# Altium schematic symbol library vestibular_vampire.SchLib: 129 symbols (part 2 of 5)
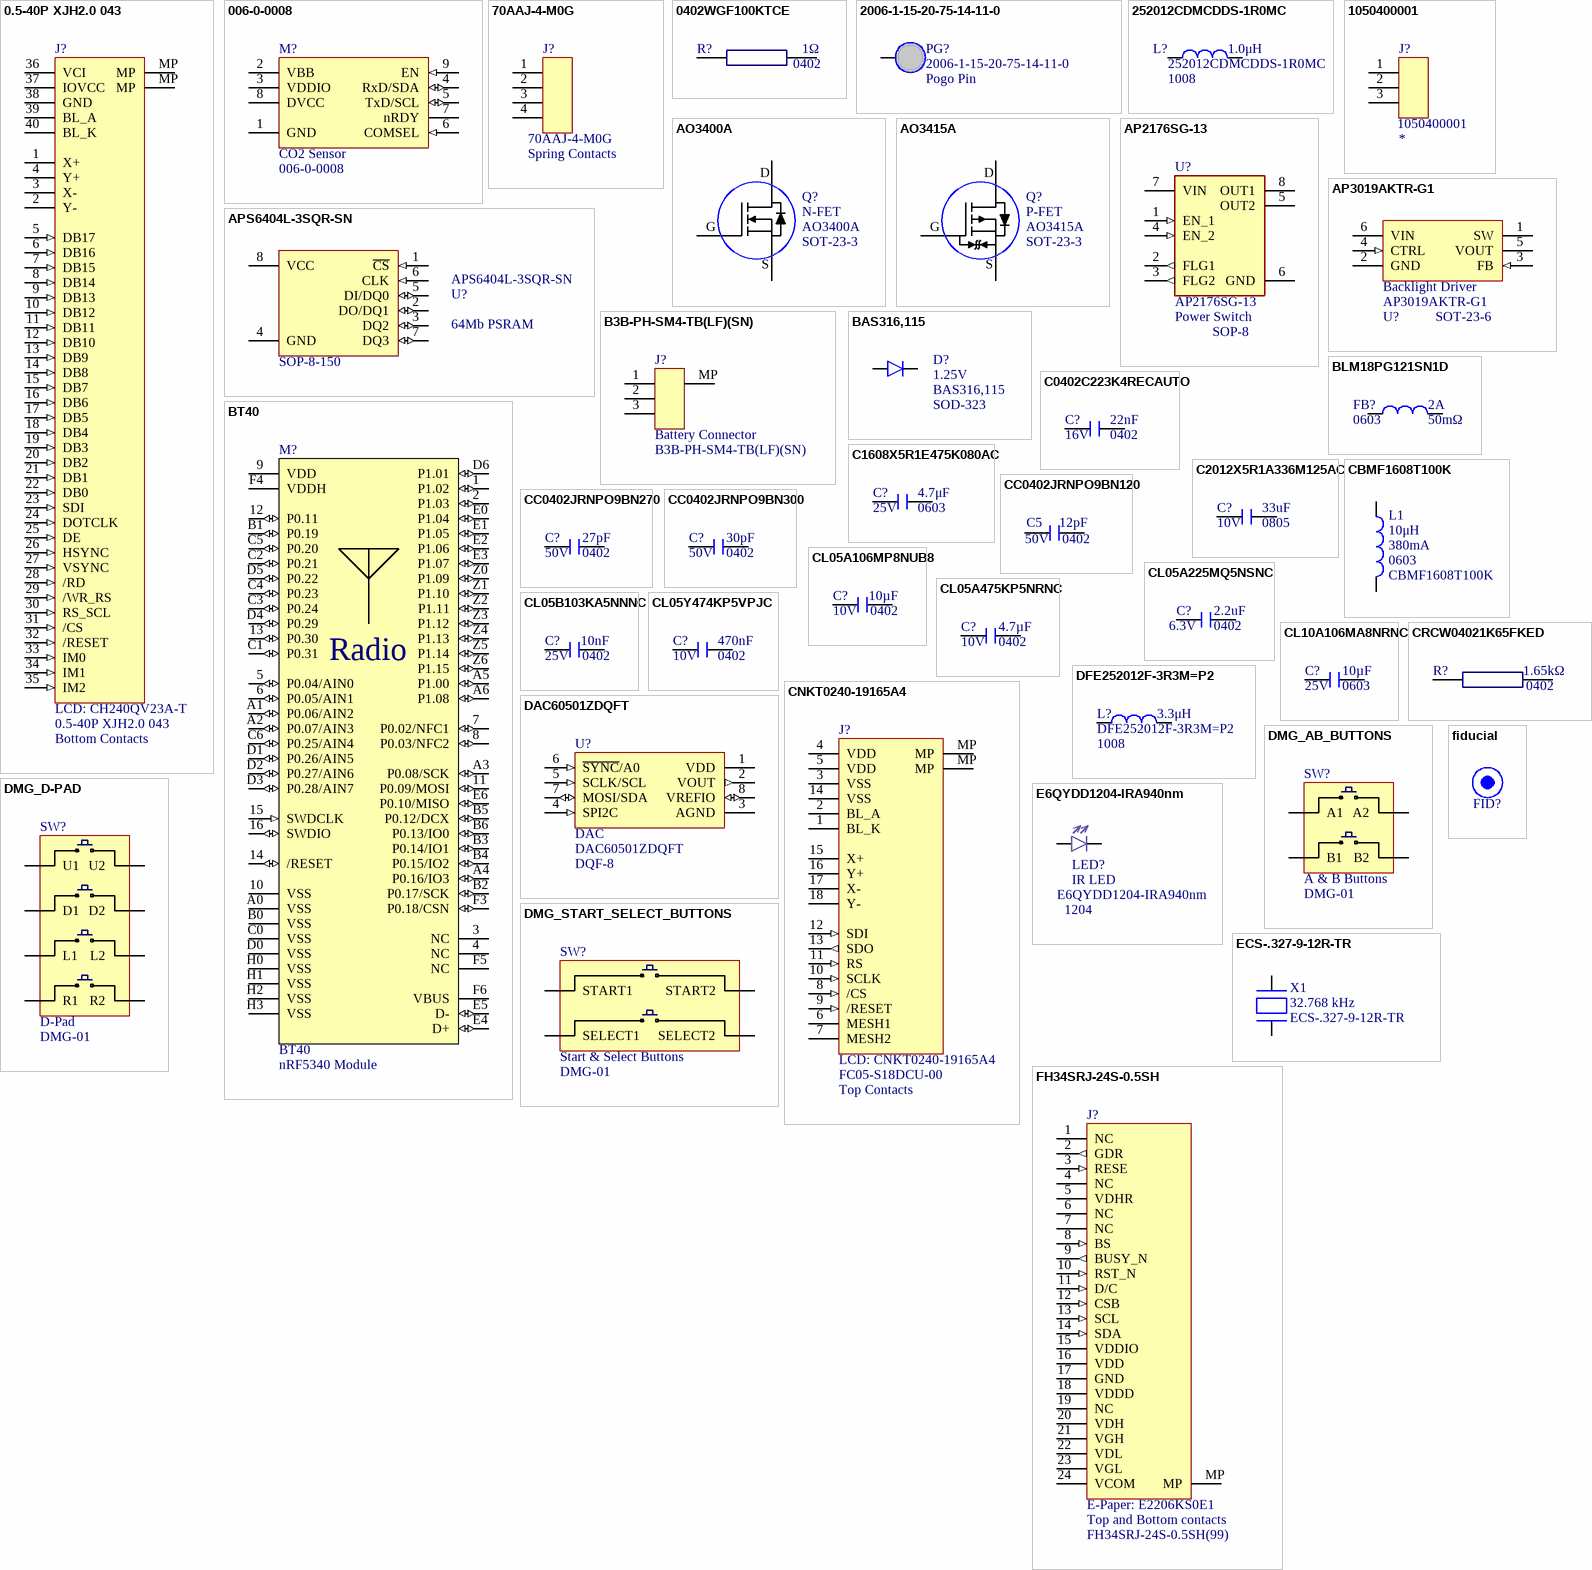
[diagram p4: symbols 0.5-40P XJH2.0 043 to fiducial]

## CRCW04021K65FKED
designator R?  value 1.65kΩ  Case/Package: 0402  (hidden comment: CRCW04021K65FKED)
1.65kΩ, 0402 Chip resistor; Manufacturer: Vishay; house_part_number: R-1.65k-0402-1%-001; Tolerance: 1%; Temperature Coefficient: 100ppm/°C; Max Power Dissipation: 63mW; Voltage Rating: 50V; Supplier 1: Mouser; Supplier Part Number 1: 71-CRCW0402-1.65K-E3; Manufacturer Part Number: CRCW04021K65FKED; RoHS: Yes; Category: Chip SMD Resistors; Stock: 17546; Pricing: 1=0.1, 10=0.019, 50=0.019, 100=0.009, 1000=0.006, 10000=0.004 (USD); Weight: 2.3E-05oz; Case Code (Metric): 1005; Case Code (Imperial): 0402; Contact Plating: Tin; Min Operating Temperature: -55°C; Max Operating Temperature: 155°C; Package Quantity: 10; Packaging: Tape and Reel; Number of Terminations: 2; Features: Automotive AEC-Q200; Series: CRCW; Power Rating: 63mW; Resistor Type: Thick Film; Termination: SMD/SMT; Voltage Rating (DC): 50V; Resistance Tolerance: 1%; Length: 0.039inch; Width: 0.02inch; Height: 0.016inch; Radiation Hardening: No; RoHS Compliant: Yes; Lead Free: Lead Free; Reach SVHC Compliant: Unknown; ComponentLink1URL: https://datasheet.ciiva.com/22871/70201119-22871702.pdf?src-supplier=Allied+Electronics; ComponentLink1Description: https://datasheet.ciiva.com/22871/70201119-22871702.pdf?src-supplier=Allied+Electronics; ComponentLink2URL: https://datasheet.ciiva.com/22700/1697337-22700683.pdf?src-supplier=Element14; ComponentLink2Description: https://datasheet.ciiva.com/22700/1697337-22700683.pdf?src-supplier=Element14; ComponentLink3URL: https://datasheet.ciiva.com/7670/1697337-7670157.pdf?src-supplier=Element14; ComponentLink3Description: https://datasheet.ciiva.com/7670/1697337-7670157.pdf?src-supplier=Element14; ComponentLink4URL: https://datasheet.ciiva.com/7670/1697337-7670158.pdf?src-supplier=Element14; ComponentLink4Description: https://datasheet.ciiva.com/7670/1697337-7670158.pdf?src-supplier=Element14; ComponentLink5URL: https://datasheet.ciiva.com/2464/dcrcwe3-2464480.pdf?src-supplier=Digikey; ComponentLink5Description: https://datasheet.ciiva.com/2464/dcrcwe3-2464480.pdf?src-supplier=Digikey; ComponentLink6URL: https://datasheet.ciiva.com/2464/dcrcwe3-2464481.pdf?src-supplier=Digikey; ComponentLink6Description: https://datasheet.ciiva.com/2464/dcrcwe3-2464481.pdf?src-supplier=Digikey; ComponentLink7URL: https://datasheet.ciiva.com/2464/dcrcwe3-2464482.pdf?src-supplier=Digikey; ComponentLink7Description: https://datasheet.ciiva.com/2464/dcrcwe3-2464482.pdf?src-supplier=Digikey; ComponentLink8URL: https://datasheet.ciiva.com/7743/125364-7743496.pdf?src-supplier=Element14; ComponentLink8Description: https://datasheet.ciiva.com/7743/125364-7743496.pdf?src-supplier=Element14
footprint 0402_resistor (Chip Resistor, 2-Leads, Body 1.00x0.50mm, IPC Medium Density)
pins: 1, 2

## DAC60501ZDQFT
designator U?, comment DAC  Package: DQF-8  Manufacturer Part Number: DAC60501ZDQFT
12-bit DAC; Manufacturer: Texas Instruments; RoHS: No; Category: Digital to Analog Converters (DACs); Stock 1: 338; Pricing 1: 1=2.66000, 10=2.38500, 25=2.25440, 100=1.85370 (USD); Supplier 1: Digi-Key; Supplier Part Number 1: 296-DAC60501ZDQFTCT-ND
footprint DQF-8 (DQF, 8-Leads, Body 2.00x2.00mm, Pitch 0.50mm, IPC Medium Density)
pins: 1 VDD (power), 2 VOUT (out), 3 AGND (power), 4 SPI2C (in), 5 SCLK/SCL (in), 6 ~{SYNC}/A0 (in), 7 MOSI/SDA (io), 8 VREFIO (io)

## DFE252012F-3R3M=P2
designator L?  value 3.3μH  Case Code (Imperial): 1008  (hidden comment: DFE252012F-3R3M=P2)
3.3 μH, 1.8 A, 1008 Inductor; Manufacturer: Murata; house_part_number: L-3.3uH-1008-002; Core Material: Ferrite; Current Rating: 1.8A; Saturation Current: 2.8A; Shielding: Shielded; DC Resistance (DCR): 135mR; Test Frequency: 1MHz; Tolerance: 20%; Supplier Part Number 1: DFE252012F-3R3M=P2; RoHS: Yes; Category: Fixed Inductors; Stock: 8; Pricing: 1=0.1101 (USD); Mounting Technology: Surface Mount; Case/Package: 1008; Case Code (Metric): 2520; Min Operating Temperature: -40°C; Max Operating Temperature: 125°C; Packaging: Cut Tape; Series: DFE252012F; Length: 0.098inch; Width: 0.079inch; Height - Seated (Max): 0.047inch; RoHS Compliant: Yes; ComponentLink1URL: http://www.murata.com/~/media/webrenewal/products/inductor/chip/tokoproducts/wirewoundmetalalloychiptype/m_dfe252012f.ashx?src-supplier=Digikey; ComponentLink1Description: http://www.murata.com/~/media/webrenewal/products/inductor/chip/tokoproducts/wirewoundmetalalloychiptype/m_dfe252012f.ashx?src-supplier=Digikey; ComponentLink2URL: https://www.murata.com/~/media/webrenewal/products/inductor/chip/tokoproducts/wirewoundmetalalloychiptype/m_dfe252012f.ashx?src-supplier=Digikey; ComponentLink2Description: https://www.murata.com/~/media/webrenewal/products/inductor/chip/tokoproducts/wirewoundmetalalloychiptype/m_dfe252012f.ashx?src-supplier=Digikey; ComponentLink3URL: https://datasheet.octopart.com/DFE252012F-3R3M%3DP2-Murata-datasheet-150009032.pdf?src-supplier=Arrow.cn; ComponentLink3Description: https://datasheet.octopart.com/DFE252012F-3R3M%3DP2-Murata-datasheet-150009032.pdf?src-supplier=Arrow.cn; Supplier 1: Arrow Electronics; Manufacturer Part Number: DFE252012F-3R3M=P2
footprint INDC2520X12N (Chip Inductor, 2-Leads, Body 2.50x2.00mm, IPC Medium Density)
pins: 1, 2

## DMG_AB_BUTTONS
designator SW?, comment A & B Buttons  Console: DMG-01
A & B buttons for gameboy DMG
footprint DMG_AB_BUTTONS (A and B buttons for the gameboy GMG)
pins: A1, A2, B1, B2

## DMG_D-PAD
designator SW?, comment D-Pad  Console: DMG-01
D-Pad for gameboy DMG
footprint DMG_D-pad (D-pad for gameboy DMG buttons)
pins: D1, D2, L1, L2, R1, R2, U1, U2

## DMG_START_SELECT_BUTTONS
designator SW?, comment Start & Select Buttons  Console: DMG-01
Start and Select buttons for gameboy DMG
footprint DMG_START_SELECT_BUTTONS (Start and Select buttons for the gameboy DMG)
pins: SELECT1, SELECT2, START1, START2

## E6QYDD1204-IRA940nm
designator LED?, comment IR LED  Case/Package: 1204  Manufacturer Part Number: E6QYDD1204-IRA940nm
Infrared LED, 940nm, 1204, side view; Manufacturer: EKINGLUX; Supplier 1: LCSC; Supplier Part Number 1: C396649
footprint LED1204_SIDE
pins: A, A, K, K

## ECS-.327-9-12R-TR
designator X1  Frequency: 32.768 kHz  (hidden comment: ECS-.327-9-12R-TR)
32.768 kHz 9 pF crystal; Manufacturer: ECS International; Supplier 1: Digi-Key; RoHS: No; Stock 1: 5487; Pricing 1: 1=0.74000, 10=0.61300, 50=0.55200, 100=0.49060, 500=0.46608, 1000=0.39248 (USD); Supplier Part Number 1: XC2745CT-ND; house_part_number: ECS-.327-9-12R; Manufacturer Part Number: ECS-.327-9-12R-TR
footprint ECX-12R (2.0 × 1.2 × 0.6 mm Crystal)
pins: 1, 2

## FH34SRJ-24S-0.5SH
designator J?, comment E-Paper: E2206KS0E1  contact_side: Top and Bottom contacts  Manufacturer Part Number: FH34SRJ-24S-0.5SH(99)
24-Pin FPC Connector, 0.5mm pitch for E2206KS0E1 E-Paper display; Manufacturer: Hirose; Actuator Material: Nylon,Polyamide; Actuator Color: Black; Number of Positions: 24; Voltage Rating: 50V; Mating Cycles: 20; Supplier: Future Electronics; Supplier Part Number: 2094306; RoHS: Yes; Category: FFC / FPC; Stock: 500; Pricing: 500=1.61, 1000=1.59, 1500=1.56 (USD); Mounting Technology: Surface Mount; Pins: 24; Contact Material: Bronze; Contact Plating: Gold; Housing Material: Polymer; Housing Color: Grey; Min Operating Temperature: -55°C; Max Operating Temperature: 85°C; Packaging: Cut Tape; Termination: Solder; Series: FH34SRJ; Flammability Rating: UL94 V-0; RoHS Compliant: Yes; ComponentLink1URL: https://www.hirose.com/product/en/download_file/key_name/FH34SRJ/category/Catalog/doc_file_id/31646/?file_category_id=4&item_id=27&is_series=1&src-supplier=Digikey; ComponentLink1Description: https://www.hirose.com/product/en/download_file/key_name/FH34SRJ/category/Catalog/doc_file_id/31646/?file_category_id=4&item_id=27&is_series=1&src-supplier=Digikey; Supplier 1: Digikey; Supplier Part Number 1: H124725CT-ND
footprint E2206KS0E1
pins: 1 NC "Not connected", 2 GDR (out) "N-channel MOSFET gate drive", 3 RESE (in) "Current sense input", 4 NC "Not connected", 5 VDHR (power) "Positive source driving voltage. Must be decoupled to GND.", 6 NC "Not connected", 7 NC "Not connected", 8 BS (in) "Interface select. Connect to GND.", 9 BUSY_N (out) "Busy, active low. Module must not be talked to while asserted.", 10 RST_N (in) "Reset, active low", 11 D/C (in) "Data/Command", 12 CSB (in) "SPI nCS", 13 SCL (in) "SPI SCK", 14 SDA (in) "SPI MOSI", 15 VDDIO (power) "Logic supply rail", 16 VDD (power) "Main supply rail", 17 GND (power) "Ground", 18 VDDD (power) "Internal voltage regulator output. Must be decoupled to GND.", 19 NC "Not connected", 20 VDH (power) "Positive source driving voltage. Must be decoupled to GND.", 21 VGH (power) "Positive gate driving voltage. Must be decoupled to GND.", 22 VDL (power) "Negative source driving voltage. Must be decoupled to GND.", 23 VGL (power) "Negative gate driving voltage. Must be decoupled to GND.", 24 VCOM (power) "VCOM driving voltage. Must be decoupled to GND.", MP "Mounting Pad"

## fiducial
designator FID?  (value not drawn)  (no BOM)
0.5mm diameter round fiducial; house_part_number: Disc-0.5
footprint fiducial-0.5

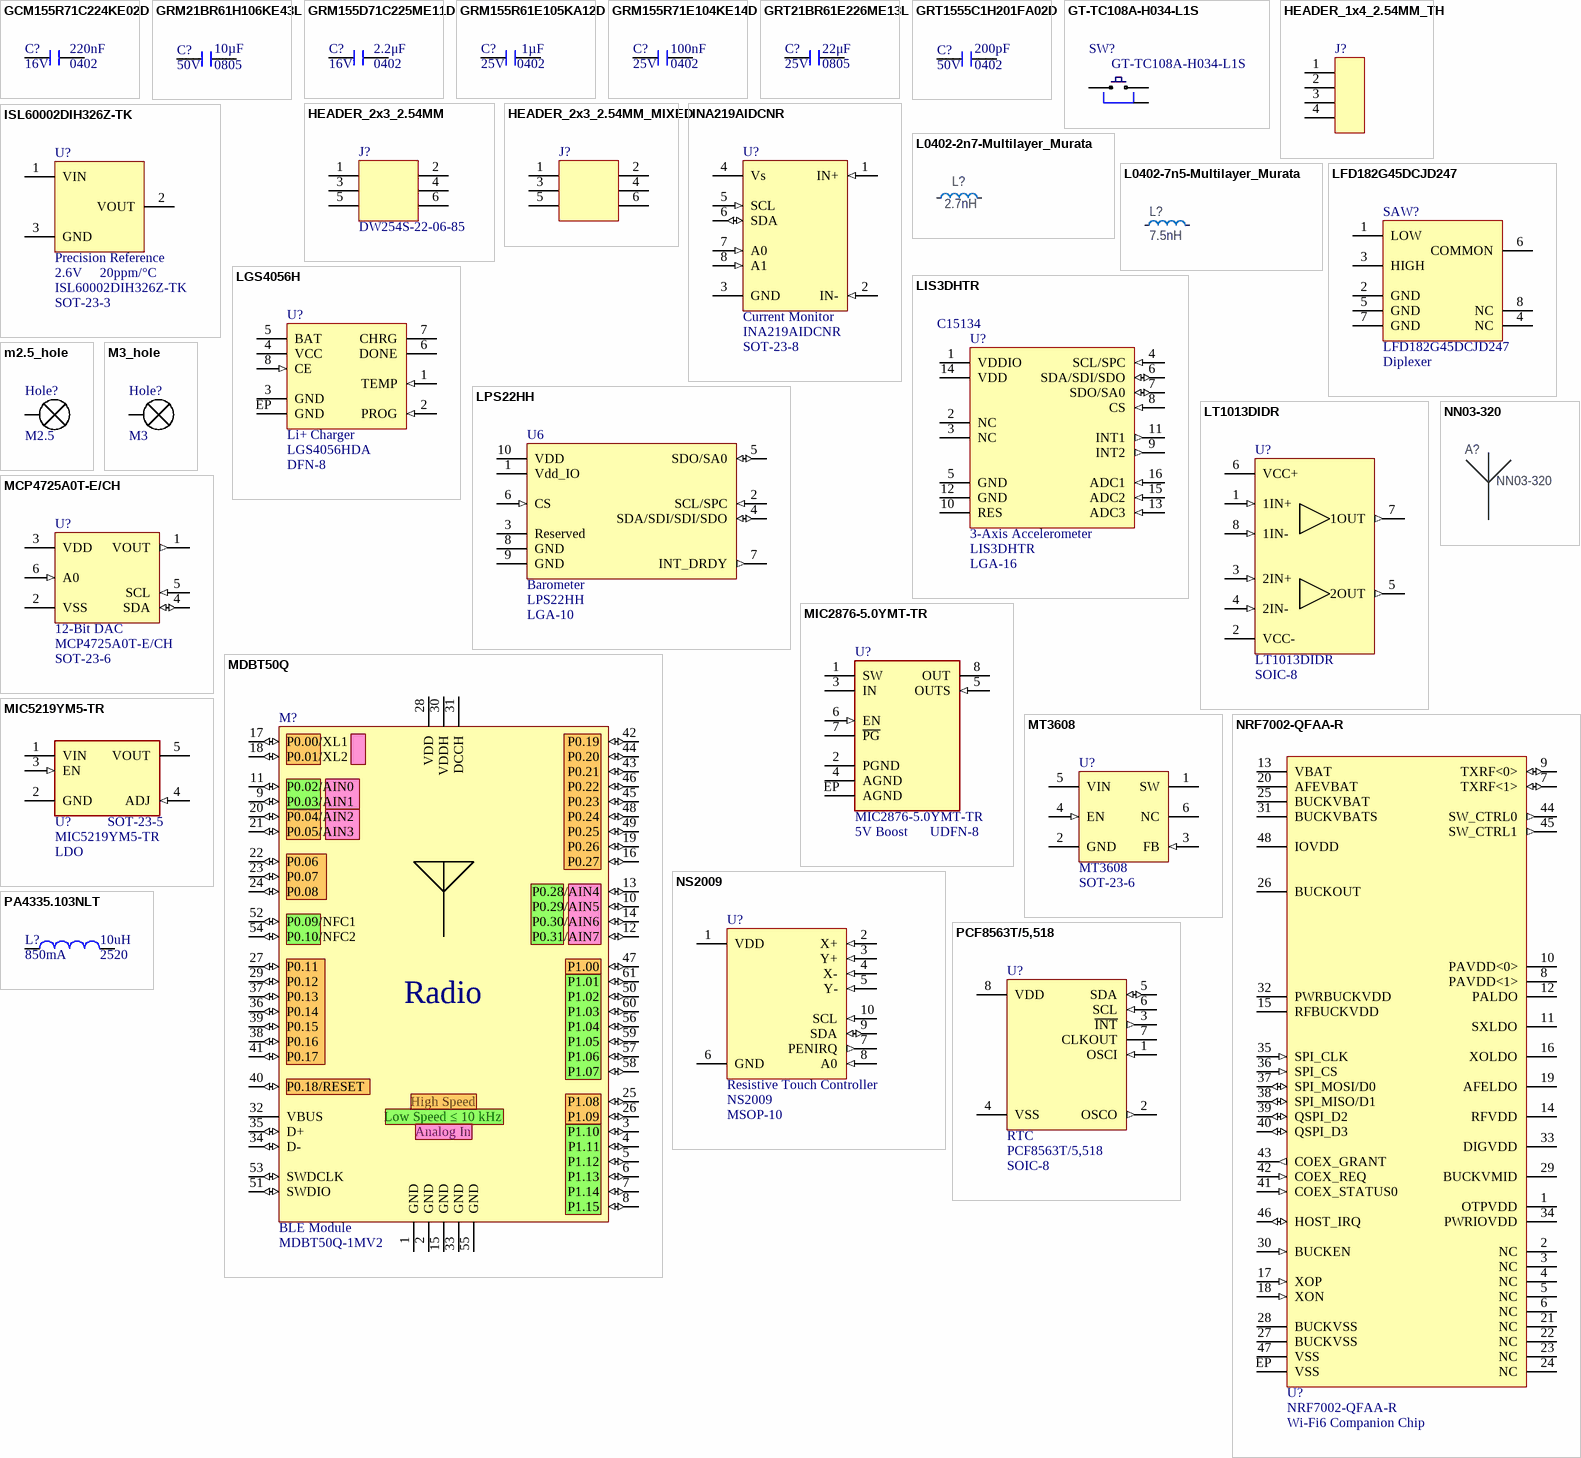
[diagram p1: symbols GCM155R71C224KE02D to PCF8563T/5,518]

## GCM155R71C224KE02D
designator C?  value 220nF  Voltage Rating: 16V  Case/Package: 0402  (hidden comment: GCM155R71C224KE02D)
220 nF, 16 V, X7R, 0402 Chip capacitor; Manufacturer: Murata; Material: Ceramic; Tolerance: 10%; Supplier: Future Electronics; Supplier Part Number: 7050660; Manufacturer Part Number: GCM155R71C224KE02D; RoHS: Yes; Category: Ceramic Capacitors; Stock: 80000; Pricing: 10000=0.0082, 30000=0.0079, 50000=0.0078, 150000=0.0076, 250000=0.0074 (USD); Mounting Technology: Surface Mount; Case Code (Metric): 1005; Case Code (Imperial): 0402; Weight: 0.000212oz; Min Operating Temperature: -55°C; Max Operating Temperature: 125°C; Packaging: Tape and Reel; Dielectric: X7R; Termination: SMD/SMT; Voltage Rating (DC): 16V; Package Quantity: 10000; Series: GCM; Length: 0.039inch; Width: 0.02inch; Height: 0.5mm; Thickness: 0.022inch; Ratings: AEC-Q200; Lead Free: Lead Free; RoHS Compliant: Yes; ComponentLink1URL: http://www.mouser.com/ds/2/281/c03e-806517.pdf?src-supplier=Mouser; ComponentLink1Description: http://www.mouser.com/ds/2/281/c03e-806517.pdf?src-supplier=Mouser; ComponentLink2URL: http://search.murata.co.jp/Ceramy/image/img/A01X/partnumbering_e_02.pdf?src-supplier=Digikey; ComponentLink2Description: http://search.murata.co.jp/Ceramy/image/img/A01X/partnumbering_e_02.pdf?src-supplier=Digikey; ComponentLink3URL: https://datasheet.octopart.com/GCM155R71C224KE02D-Murata-datasheet-32042419.pdf?src-supplier=Future+Electronics; ComponentLink3Description: https://datasheet.octopart.com/GCM155R71C224KE02D-Murata-datasheet-32042419.pdf?src-supplier=Future+Electronics; ComponentLink4URL: https://datasheet.octopart.com/GCM155R71C224KE02D-Murata-datasheet-149522429.pdf?src-supplier=Newark; ComponentLink4Description: https://datasheet.octopart.com/GCM155R71C224KE02D-Murata-datasheet-149522429.pdf?src-supplier=Newark; ComponentLink5URL: https://datasheet.octopart.com/GCM155R71C224KE02D-Murata-datasheet-12511495.pdf?src-supplier=TME; ComponentLink5Description: https://datasheet.octopart.com/GCM155R71C224KE02D-Murata-datasheet-12511495.pdf?src-supplier=TME
footprint 0402_capacitor (0402 chip capacitor)
pins: 1, 2

## GRM21BR61H106KE43L
designator C?  value 10µF  Case/Package: 0805  Voltage Rating: 50V  (hidden comment: *)
10 μF, 50 V, X5R, 0805 Chip capacitor; Manufacturer: Murata; Manufacturer Part Number: GRM21BR61H106KE43L; Manufacturer Lifecycle Status: IN PRODUCTION; Dielectric Material: Ceramic; Tolerance: 10%; Supplier 1: LCSC; RoHS: Compliant; Category: Ceramic Capacitors; Stock 1: 4345800; Pricing 1: 10=0.4708, 10=0.0567, 10=0.514, 10=0.0644, 100=0.3794, 100=0.0457, 100=0.4142, 100=0.0519, 300=0.3327, 300=0.0401, 300=0.3631, 300=0.0455, 3000=0.2815, 3000=0.0339, 3000=0.3073, 3000=0.0385, 6000=0.2676, 6000=0.0323, 6000=0.2921, 6000=0.0366, 9000=0.2588, 9000=0.0312, 9000=0.2825, 9000=0.0354 (CNY); Dielectric: X5R; Height: 1.25mm; Length: 2mm; Lifecycle Status: Production; Material: Ceramic; Max Operating Temperature: 85°C; Min Operating Temperature: -55°C; Mounting Technology: Surface Mount; Number of Terminals: 2; REACH SVHC: Yes; Thickness: 1.25mm; Voltage Rating (DC): 50V; Width: 1.25mm; ComponentLink1URL: https://datasheet.octopart.com:443/GRM21BR61H106KE43L-Murata-datasheet-155345082.pdf?src-supplier=Newark; ComponentLink1Description: https://datasheet.octopart.com:443/GRM21BR61H106KE43L-Murata-datasheet-155345082.pdf?src-supplier=Newark; ComponentLink2URL: https://datasheet.octopart.com:443/GRM21BR61H106KE43L-Murata-datasheet-141278272.pdf?src-supplier=Geoflip; ComponentLink2Description: https://datasheet.octopart.com:443/GRM21BR61H106KE43L-Murata-datasheet-141278272.pdf?src-supplier=Geoflip; ComponentLink3URL: https://datasheet.octopart.com:443/GRM21BR61H106KE43L-Murata-datasheet-165579666.pdf?src-supplier=TME; ComponentLink3Description: https://datasheet.octopart.com:443/GRM21BR61H106KE43L-Murata-datasheet-165579666.pdf?src-supplier=TME; ComponentLink4URL: https://datasheet.octopart.com:443/GRM21BR61H106KE43L-Murata-datasheet-140707579.pdf?src-supplier=Ciiva; ComponentLink4Description: https://datasheet.octopart.com:443/GRM21BR61H106KE43L-Murata-datasheet-140707579.pdf?src-supplier=Ciiva; ComponentLink5URL: https://datasheet.octopart.com:443/GRM21BR61H106KE43L-Murata-datasheet-138744880.pdf?src-supplier=Ciiva; ComponentLink5Description: https://datasheet.octopart.com:443/GRM21BR61H106KE43L-Murata-datasheet-138744880.pdf?src-supplier=Ciiva; ComponentLink6URL: https://datasheet.octopart.com/GRM21BR61H106KE43L-Murata-datasheet-12515295.pdf; ComponentLink6Description: https://datasheet.octopart.com/GRM21BR61H106KE43L-Murata-datasheet-12515295.pdf; ComponentLink7URL: https://datasheet.octopart.com/GRM21BR61H106KE43L-Murata-datasheet-12510076.pdf; ComponentLink7Description: https://datasheet.octopart.com/GRM21BR61H106KE43L-Murata-datasheet-12510076.pdf; ComponentLink8URL: https://datasheet.octopart.com/GRM21BR61H106KE43L-Murata-datasheet-11978611.pdf; ComponentLink8Description: https://datasheet.octopart.com/GRM21BR61H106KE43L-Murata-datasheet-11978611.pdf; ComponentLink9URL: https://datasheet.octopart.com/GRM21BR61H106KE43L-Murata-datasheet-10025737.pdf; ComponentLink9Description: https://datasheet.octopart.com/GRM21BR61H106KE43L-Murata-datasheet-10025737.pdf; ComponentLink10URL: https://datasheet.octopart.com/GRM21BR61H106KE43L-Murata-datasheet-8819587.pdf; ComponentLink10Description: https://datasheet.octopart.com/GRM21BR61H106KE43L-Murata-datasheet-8819587.pdf; ComponentLink11URL: http://sigma.octopart.com:80/reach_statement/Murata-company-16.pdf?src-supplier=Compliance+Statements; ComponentLink11Description: http://sigma.octopart.com:80/reach_statement/Murata-company-16.pdf?src-supplier=Compliance+Statements; Supplier Part Number 1: C440198
footprint 0805_capacitor (Chip Capacitor, 2-Leads, Body 2.00x1.25mm, IPC Medium Density)
pins: 1, 2

## GRM155D71C225ME11D
designator C?  value 2.2μF  Voltage Rating: 16V  Case/Package: 0402  (hidden comment: GRM155D71C225ME11D)
2.2 µF, 16 V, X7T, 0402 Chip capacitor; Manufacturer: Murata; Material: Ceramic; Tolerance: 20%; Supplier: Future Electronics; Supplier Part Number: 9135167; Manufacturer Part Number: GRM155D71C225ME11D; RoHS: Yes; Category: Ceramic Capacitors; Stock: 10000; Pricing: 10000=0.0274, 20000=0.027, 30000=0.0267, 40000=0.0266, 50000=0.026 (USD); Min Operating Temperature: -55°C; Max Operating Temperature: 125°C; Dielectric: X7T; Voltage Rating (DC): 16V; Length: 1mm; Width: 500um; Height: 650um; Thickness: 500um; RoHS Compliant: Yes; ComponentLink1URL: https://datasheet.octopart.com/GRM155D71C225ME11D-Murata-datasheet-165579666.pdf?src-supplier=TME; ComponentLink1Description: https://datasheet.octopart.com/GRM155D71C225ME11D-Murata-datasheet-165579666.pdf?src-supplier=TME
footprint 0402_capacitor (0402 chip capacitor)
pins: 1, 2

## GRM155R61E105KA12D
designator C?  Size Code: 0402  Capacitance: 1µF  Voltage: 25V  (hidden comment: GRM155R61E105KA12D)
1 µF, 25 V, X5R, 0402 Chip capacitor; Manufacturer: Murata; house_part_number: C-1uF-0402-002; Dielectric Material: Ceramic; Multilayer: Yes; Negative Tolerance: 10%; Supplier 1: Digi-Key; Supplier Part Number 1: 490-10017-1-ND; RoHS: Yes; Category: Ceramic Capacitors; Stock 1: 145965; Pricing 1: 1=0.11000, 10=0.08300, 50=0.04560, 100=0.03720, 500=0.02656, 1000=0.02087, 2500=0.01898, 5000=0.01746 (USD); Mount: Surface Mount; Number of Pins: 2; Package Shape: Rectangular; Terminal Finish: Nickel; Min Operating Temperature: -55°C; Max Operating Temperature: 85°C; JESD-609 Code: e3; Capacitor Type: Ceramic; Package Style: SMTMeter; Packaging: Tape and Reel; Positive Tolerance: 10%; Temperature Characteristics Code: X5R; Termination: Wraparound; Length: 1mm; Width: 0.5mm; Height: 0.5mm; REACH SVHC: Yes; RoHS Compliant: Yes; ComponentLink1URL: https://datasheet.ciiva.com:443/pdfs/VipMasterIC/IC/MURE/MURE-S-A0004362469/MURE-S-A0004364524-1.pdf?src-supplier=IHS+Markit; ComponentLink1Description: https://datasheet.ciiva.com:443/pdfs/VipMasterIC/IC/MURE/MURE-S-A0004362469/MURE-S-A0004364524-1.pdf?src-supplier=IHS+Markit; ComponentLink2URL: https://datasheet.ciiva.com/7719/1666664-7719006.pdf?src-supplier=Element14; ComponentLink2Description: https://datasheet.ciiva.com/7719/1666664-7719006.pdf?src-supplier=Element14; ComponentLink3URL: https://datasheet.ciiva.com/22732/1666664-22732122.pdf?src-supplier=Element14; ComponentLink3Description: https://datasheet.ciiva.com/22732/1666664-22732122.pdf?src-supplier=Element14; Manufacturer Part Number: GRM155R61E105KA12D
footprint 0402_capacitor (0402 chip capacitor)
pins: 1, 2

## GRM155R71E104KE14D
designator C?  Case Code (Imperial): 0402  Voltage: 25V  Capacitance: 100nF  (hidden comment: GRM155R71E104KE14D)
100 nF, 25 V, X7R, 0402 Chip capacitor; Manufacturer: Murata; house_part_number: C-100nF-0402-002; Dielectric Material: Ceramic; Tolerance: 10%; Supplier 1: Digi-Key; Supplier Part Number 1: 490-10698-1-ND; RoHS: Yes; Category: Ceramic Capacitors; Pricing 1: 1=0.10000, 10=0.02700, 50=0.01460, 100=0.01190, 500=0.00848, 1000=0.00666, 2500=0.00605, 5000=0.00557 (USD); Mount: Surface Mount; Case/Package: 0402; Case Code (Metric): 1005; Weight: 0.000212oz; Min Operating Temperature: -55°C; Max Operating Temperature: 125°C; Packaging: Tape and Reel; Voltage Rating: 25V; Dielectric: X7R; Termination: SMD/SMT; Resistor Type: Ceramic; Voltage Rating (DC): 25V; Package Quantity: 10000; Length: 1mm; Width: 0.02inch; Height: 0.5mm; Thickness: 0.022inch; Depth: 0.5mm; REACH SVHC: Unknown; Lead Free: Lead Free; RoHS Compliant: Yes; ComponentLink1URL: http://www.farnell.com/datasheets/1872206.pdf?src-supplier=Farnell; ComponentLink1Description: http://www.farnell.com/datasheets/1872206.pdf?src-supplier=Farnell; ComponentLink2URL: http://components.arrow.com/part/dataview/0323_06361249?src-supplier=Arrow+Europe; ComponentLink2Description: http://components.arrow.com/part/dataview/0323_06361249?src-supplier=Arrow+Europe; ComponentLink3URL: http://uk.rs-online.com/webdocs/144c/0900766b8144c113.pdf?src-supplier=RSComponents; ComponentLink3Description: http://uk.rs-online.com/webdocs/144c/0900766b8144c113.pdf?src-supplier=RSComponents; ComponentLink4URL: http://www.farnell.com/datasheets/2048008.pdf?src-supplier=Farnell; ComponentLink4Description: http://www.farnell.com/datasheets/2048008.pdf?src-supplier=Farnell; ComponentLink5URL: http://www.mouser.com/ds/2/281/c02e-2905.pdf?src-supplier=Mouser; ComponentLink5Description: http://www.mouser.com/ds/2/281/c02e-2905.pdf?src-supplier=Mouser; ComponentLink6URL: http://www.farnell.com/datasheets/2048008.pdf?src-supplier=Newark; ComponentLink6Description: http://www.farnell.com/datasheets/2048008.pdf?src-supplier=Newark; ComponentLink7URL: https://search.murata.co.jp/Ceramy/image/img/A01X/G101/ENG/GRM155R71E104KE14-01.pdf?src-supplier=Digi-Key; ComponentLink7Description: https://search.murata.co.jp/Ceramy/image/img/A01X/G101/ENG/GRM155R71E104KE14-01.pdf?src-supplier=Digi-Key; ComponentLink8URL: http://www.farnell.com/datasheets/2048008.pdf?src-supplier=Element14; ComponentLink8Description: http://www.farnell.com/datasheets/2048008.pdf?src-supplier=Element14; ComponentLink9URL: http://psearch.en.murata.com/capacitor/product/GRM155R71E104KE14%23.pdf?src-supplier=Avnet; ComponentLink9Description: http://psearch.en.murata.com/capacitor/product/GRM155R71E104KE14%23.pdf?src-supplier=Avnet; Manufacturer Part Number: GRM155R71E104KE14D
footprint 0402_capacitor (0402 chip capacitor)
pins: 1, 2

## GRT21BR61E226ME13L
designator C?  value 22μF  Rated DC Voltage (URdc): 25V  Case/Package: 0805  (hidden comment: *)
22 μF, 25 V, X5R, 0805 Chip capacitor; Manufacturer: Murata; Manufacturer Part Number: GRT21BR61E226ME13L; Dielectric Material: Ceramic; Multilayer: Yes; Tolerance  (fill in as +-): 20%; Reference Standard: AEC-Q200; Supplier 1: Digi-Key; RoHS: Yes; Category: Ceramic Capacitors; Stock 1: 1983731; Pricing 1: 1=0.48, 10=0.338, 50=0.2558, 100=0.2228, 500=0.16508, 1000=0.14031 (USD); Mounting Technology: Surface Mount; Pins: 2; Package Shape: Rectangular; Terminal Finish: Nickel; Min Operating Temperature: -55°C; Max Operating Temperature: 85°C; JESD-609 Code: e3; Capacitor Type: Ceramic; Packaging: Tape and Reel; Tolerance (fill in as +-): 20%; Temperature Characteristics Code: X5R; Termination: Wraparound; Reach SVHC Compliant: Yes; RoHS Compliant: Yes; ComponentLink1URL: https://datasheet.ciiva.com:443/pdfs/VipMasterIC/IC/MURE/MURE-S-A0004410517/MURE-S-A0004413512-1.pdf?src-supplier=IHS+Markit; ComponentLink1Description: https://datasheet.ciiva.com:443/pdfs/VipMasterIC/IC/MURE/MURE-S-A0004410517/MURE-S-A0004413512-1.pdf?src-supplier=IHS+Markit; ComponentLink2URL: http://search.murata.co.jp/Ceramy/image/img/A01X/G101/ENG/GRT21BR61E226ME13-01.pdf?src-supplier=Digi-Key; ComponentLink2Description: http://search.murata.co.jp/Ceramy/image/img/A01X/G101/ENG/GRT21BR61E226ME13-01.pdf?src-supplier=Digi-Key; Supplier Part Number 1: 490-12389-1-ND
footprint 0805_capacitor (Chip Capacitor, 2-Leads, Body 2.00x1.25mm, IPC Medium Density)
pins: 1, 2

## GRT1555C1H201FA02D
designator C?  value 200pF  Voltage Rating: 50V  Case/Package: 0402  (hidden comment: *)
200 pF, 50V, C0G, 0402 Chip capacitor; Manufacturer: Murata; Manufacturer Part Number: GRT1555C1H201FA02D; Manufacturer Lifecycle Status: IN PRODUCTION; Dielectric Material: Ceramic; Temperature Coefficient: 30ppm/°C; Tolerance: 1%; Supplier 1: LCSC; RoHS: Compliant; Category: Ceramic Capacitors; Stock 1: 4350; Pricing 1: 50=0.0995, 50=0.012, 50=0.1086, 50=0.0136, 500=0.0783, 500=0.0095, 500=0.0854, 500=0.0107, 1500=0.0666, 1500=0.0081, 1500=0.0727, 1500=0.0091, 10000=0.0593, 10000=0.0072, 10000=0.0647, 10000=0.0081, 20000=0.0534, 20000=0.0065, 20000=0.0583, 20000=0.0073, 50000=0.0505, 50000=0.0061, 50000=0.0551, 50000=0.0069 (CNY); Height: 500µm; Length: 1mm; Lifecycle Status: Production; Material: Ceramic; Max Operating Temperature: 125°C; Min Operating Temperature: -55°C; Mounting Technology: Surface Mount; Number of Terminals: 2; REACH SVHC: Yes; Thickness: 500µm; Voltage Rating (DC): 50V; Width: 500µm; ComponentLink1URL: http://sigma.octopart.com:80/reach_statement/Murata-company-16.pdf?src-supplier=Compliance+Statements; ComponentLink1Description: http://sigma.octopart.com:80/reach_statement/Murata-company-16.pdf?src-supplier=Compliance+Statements; Supplier Part Number 1: C3896876
footprint 0402_capacitor (0402 chip capacitor)
pins: 1, 2

## GT-TC108A-H034-L1S
designator SW?
GT-TC108A-H034-L1S; Manufacturer: G-Switch; Supplier: LCSC; Supplier Part Number: C22396279; RoHS: No; Stock: 21128; Pricing: 5=0.1075, 50=0.0865, 150=0.0761, 500=0.0682, 2000=0.0619, 4000=0.0587 (USD); Manufacturer Part Number: GT-TC108A-H034-L1S
footprint SKRTLA
pins: A, B, MP (power)

## HEADER_1x4_2.54MM_TH
designator J?  (value not drawn)
footprint HEADER_1X4P_2.54MM_TH
pins: 1, 2, 3, 4

## HEADER_2x3_2.54MM
designator J?  Manufacturer Part Number: DW254S-22-06-85  (hidden comment: HEADER_2x3_2.54MM)
0.1" socket, 3x2, SMD; house_part_number: DW254S-22-06-85
footprint HEADER_2X3P_2.54MM
pins: 1, 2, 3, 4, 5, 6

## HEADER_2x3_2.54MM_MIXED
designator J?, comment HEADER_2x3_2.54MM  (value not drawn)
0.1" socket, 3x2, SMD; house_part_number: SAO; Manufacturer Part Number: SAO Header
footprint HEADER_2X3P_2.54MM - TH
pins: 1, 2, 3, 4, 5, 6

## INA219AIDCNR
designator U?, comment Current Monitor  Case/Package: SOT-23-8  Manufacturer Part Number: INA219AIDCNR
12-bit, 26 V, Current monitor, SOT-23-8; Manufacturer: Texas Instruments; Manufacturer Lifecycle Status: ACTIVE; Accuracy: 1%; Bandwidth: 3.4MHz; Common Mode Rejection Ratio: 100dB; Input Offset Voltage (Vos): 100µV; Max Supply Voltage: 26V; Max Junction Temperature (Tj): 150°C; Max Supply Current: 5mA; Min Input Voltage: 0V; Min Supply Voltage: 3V; Nominal Supply Current: 700µA; Number of Amplifiers: 1; Operating Supply Current: 1mA; Output Current: 10mA; Output Type: Digital; Supplier 1: LCSC; RoHS: Compliant; Category: Amplifiers - Op Amps, Buffer, Instrumentation; Stock 1: 20380; Pricing 1: 1=4.0454, 1=0.4815, 1=4.4162, 1=0.5534, 10=3.3809, 10=0.4024, 10=3.6908, 10=0.4625, 30=2.9072, 30=0.346, 30=3.1737, 30=0.3977, 100=2.5132, 100=0.2992, 100=2.7436, 100=0.3438, 500=2.389, 500=0.2844, 500=2.6079, 500=0.3268, 1000=2.3217, 1000=0.2764, 1000=2.5345, 1000=0.3176 (CNY); Ambient Temperature Range High: 85°C; Contact Plating: Gold; Features: I²C; Height: 1.45mm; Lead Free: Lead Free; Length: 2.9mm; Lifecycle Status: Production; Max Operating Temperature: 125°C; Min Operating Temperature: -40°C; Number of Outputs: 1; Pins: 8; Output Current per Channel: 10mA; Packaging: Cut Tape; Quiescent Current: 700µA; Radiation Hardening: No; REACH SVHC: No; Schedule B: 8542330000|8542330000|8542330000, 8542330000|8542330000|8542330000|8542330000|8542330000; Thickness: 1.1mm; Weight: 40.001177mg; Width: 1.63mm; ComponentLink1URL: https://octopart.com:443/opatz8j6/c1?t=DVq09uJr_YdfZ3FRpbOBgPun56EVh337pP3YmMsMgBQtNH6hRcAHRUvxGerFQEBV7m1HzARORBc_wP6s1K2TllUe8djZ8D3A50dxM-TXm_1WtZGsSs9rKauk-HQpUDSZf4lUPI62nM8LWJt3msp5UKlwZreW95VyiTJ2Dr4WnsefFfByjfz4Pr-XpEVfgU679EhLe0aST7zwMe-5YuyqqsAtxcCLEgrONwdDej-2clXOK-cBRd3NGZmje8a8QhigDDw02IpOoivKjdM1wlIeKQ4WXXxBl5NHv561hpyEZKyv6NAKwXJkcYig7bt9qUrtqQLjmPafQrnLdjIA2W2dMCJI4l2lGR1WvT7_B070DjUZK-9N8JxxLah7jZa2Tv7ownM&src-supplier=Texas+Instruments; ComponentLink1Description: https://octopart.com:443/opatz8j6/c1?t=DVq09uJr_YdfZ3FRpbOBgPun56EVh337pP3YmMsMgBQtNH6hRcAHRUvxGerFQEBV7m1HzARORBc_wP6s1K2TllUe8djZ8D3A50dxM-TXm_1WtZGsSs9rKauk-HQpUDSZf4lUPI62nM8LWJt3msp5UKlwZreW95VyiTJ2Dr4WnsefFfByjfz4Pr-XpEVfgU679EhLe0aST7zwMe-5YuyqqsAtxcCLEgrONwdDej-2clXOK-cBRd3NGZmje8a8QhigDDw02IpOoivKjdM1wlIeKQ4WXXxBl5NHv561hpyEZKyv6NAKwXJkcYig7bt9qUrtqQLjmPafQrnLdjIA2W2dMCJI4l2lGR1WvT7_B070DjUZK-9N8JxxLah7jZa2Tv7ownM&src-supplier=Texas+Instruments; ComponentLink2URL: https://datasheet.octopart.com:443/INA219AIDCNR-Texas-Instruments-datasheet-10383171.pdf?src-supplier=Texas+Instruments; ComponentLink2Description: https://datasheet.octopart.com:443/INA219AIDCNR-Texas-Instruments-datasheet-10383171.pdf?src-supplier=Texas+Instruments; ComponentLink3URL: https://datasheet.octopart.com:443/INA219AIDCNR-Texas-Instruments-datasheet-10258484.pdf?src-supplier=Texas+Instruments; ComponentLink3Description: https://datasheet.octopart.com:443/INA219AIDCNR-Texas-Instruments-datasheet-10258484.pdf?src-supplier=Texas+Instruments; ComponentLink4URL: https://sigma.octopart.com:443/49252122/technical_drawing/Texas-Instruments-INA219AIDCNR.pdf?src-supplier=Texas+Instruments; ComponentLink4Description: https://sigma.octopart.com:443/49252122/technical_drawing/Texas-Instruments-INA219AIDCNR.pdf?src-supplier=Texas+Instruments; ComponentLink5URL: https://datasheet.octopart.com:443/INA219AIDCNR-Texas-Instruments-datasheet-102489495.pdf?src-supplier=Upverter; ComponentLink5Description: https://datasheet.octopart.com:443/INA219AIDCNR-Texas-Instruments-datasheet-102489495.pdf?src-supplier=Upverter; ComponentLink6URL: https://datasheet.octopart.com:443/INA219AIDCNR-Texas-Instruments-datasheet-11538655.pdf?src-supplier=Future+Electronics; ComponentLink6Description: https://datasheet.octopart.com:443/INA219AIDCNR-Texas-Instruments-datasheet-11538655.pdf?src-supplier=Future+Electronics; ComponentLink7URL: https://datasheet.octopart.com:443/INA219AIDCNR-Texas-Instruments-datasheet-137316104.pdf?src-supplier=Future+Electronics; ComponentLink7Description: https://datasheet.octopart.com:443/INA219AIDCNR-Texas-Instruments-datasheet-137316104.pdf?src-supplier=Future+Electronics; ComponentLink8URL: https://datasheet.octopart.com:443/INA219AIDCNR-Texas-Instruments-datasheet-24897021.pdf?src-supplier=element14+APAC; ComponentLink8Description: https://datasheet.octopart.com:443/INA219AIDCNR-Texas-Instruments-datasheet-24897021.pdf?src-supplier=element14+APAC; ComponentLink9URL: https://datasheet.octopart.com:443/INA219AIDCNR.-Texas-Instruments-datasheet-62277359.pdf?src-supplier=element14+APAC; ComponentLink9Description: https://datasheet.octopart.com:443/INA219AIDCNR.-Texas-Instruments-datasheet-62277359.pdf?src-supplier=element14+APAC; ComponentLink10URL: https://datasheet.octopart.com:443/INA219AIDCNR-Texas-Instruments-datasheet-164414650.pdf?src-supplier=SHENGYU+ELECTRONICS; ComponentLink10Description: https://datasheet.octopart.com:443/INA219AIDCNR-Texas-Instruments-datasheet-164414650.pdf?src-supplier=SHENGYU+ELECTRONICS; ComponentLink11URL: https://datasheet.octopart.com:443/INA219AIDCNR-Texas-Instruments-datasheet-159115060.pdf?src-supplier=LCSC; ComponentLink11Description: https://datasheet.octopart.com:443/INA219AIDCNR-Texas-Instruments-datasheet-159115060.pdf?src-supplier=LCSC; ComponentLink12URL: https://datasheet.octopart.com:443/INA219AIDCNR-Texas-Instruments-datasheet-140571431.pdf?src-supplier=Arrow.cn; ComponentLink12Description: https://datasheet.octopart.com:443/INA219AIDCNR-Texas-Instruments-datasheet-140571431.pdf?src-supplier=Arrow.cn; ComponentLink13URL: https://datasheet.octopart.com:443/INA219AIDCNR-Texas-Instruments-datasheet-14155040.pdf?src-supplier=iiiC; ComponentLink13Description: https://datasheet.octopart.com:443/INA219AIDCNR-Texas-Instruments-datasheet-14155040.pdf?src-supplier=iiiC; ComponentLink14URL: http://sigma.octopart.com:80/conflict_mineral_statement/Texas-Instruments-company-63.pdf?src-supplier=Compliance+Statements; ComponentLink14Description: http://sigma.octopart.com:80/conflict_mineral_statement/Texas-Instruments-company-63.pdf?src-supplier=Compliance+Statements; ComponentLink15URL: http://sigma.octopart.com:80/reach_statement/Texas-Instruments-company-64.pdf?src-supplier=Compliance+Statements; ComponentLink15Description: http://sigma.octopart.com:80/reach_statement/Texas-Instruments-company-64.pdf?src-supplier=Compliance+Statements; Supplier Part Number 1: C87469
footprint SOT-23-8
pins: 1 IN+ (in) "Positive differential shunt voltage. Connect to positive side of shunt resistor.", 2 IN- (in) "Negative differential shunt voltage. Connect to negative side of shunt resistor. Bus voltage is measured from this pin to ground.", 3 GND "Ground", 4 Vs "Power supply, 3 to 5.5 V", 5 SCL (in) "Serial bus clock line", 6 SDA (io) "Serial bus data line", 7 A0 (in) "I2C address pin.", 8 A1 (in) "I2C address pin."

## ISL60002DIH326Z-TK
designator U?, comment Precision Reference  Case/Package: SOT-23-3  Temperature Coefficient: 20ppm/°C  Reference Voltage: 2.6V  Manufacturer Part Number: ISL60002DIH326Z-TK
2.6 V, ±5.0mV, 20ppm/°C, 7 mA Precision Voltage Reference, SOT-23-3; Manufacturer: Renesas; Part Family: ISL60002DIH326; Manufacturer Lifecycle Status: ACTIVE; Max Supply Voltage: 5.5V; Max Output current: 7mA; Max Supply Current: 900nA; Min Input Voltage: 2.8V; Min Output Voltage: -2.4V; Number of Circuits: 1; Operating Supply Voltage: 3V; Output Type: Fixed; Pitch: 0m; Reference Type: Series; Tolerance: 0.19%; Supplier 1: LCSC; RoHS: Compliant; Category: Voltage References; Stock 1: 50; Pricing 1: 1=17.1493, 1=2.0645, 1=18.7211, 1=2.346, 10=16.7772, 10=2.0197, 10=18.3149, 10=2.2951, 30=16.5287, 30=1.9898, 30=18.0436, 30=2.2611, 100=16.2801, 100=1.9599, 100=17.7723, 100=2.2271 (CNY); Export Control Classification Number (ECCN) Code: EAR99; Height: 0m; Height - Seated (Max): 1.12mm; Harmonized Tariff Schedule (HTS) Code: 8540000000; Length: 2.9mm; Lifecycle Status: Production; Max Operating Temperature: 85°C; Max Output Voltage: 2.6V; Min Operating Temperature: -40°C; Min Supply Voltage: 2.8V; MSL: 1; Mounting Technology: Surface Mount; Nominal Output Voltage: 2.6V; Number of Outputs: 1; Pins: 3; Number of Terminals: 3; Operating Supply Current: 900nA; Output Current: 7mA; Output Voltage: 2.6V; Radiation Hardening: No; REACH SVHC: Yes; Terminal Pitch: 950µm; Width: 1.3mm; ComponentLink1URL: https://datasheet.octopart.com:443/ISL60002DIH326Z-TK-Renesas-datasheet-181194884.pdf?src-supplier=IHS; ComponentLink1Description: https://datasheet.octopart.com:443/ISL60002DIH326Z-TK-Renesas-datasheet-181194884.pdf?src-supplier=IHS; ComponentLink2URL: https://datasheet.octopart.com:443/ISL60002DIH326Z-TK-Intersil-datasheet-93396614.pdf?src-supplier=IHS; ComponentLink2Description: https://datasheet.octopart.com:443/ISL60002DIH326Z-TK-Intersil-datasheet-93396614.pdf?src-supplier=IHS; ComponentLink3URL: https://datasheet.octopart.com:443/ISL60002DIH326Z-TK-Renesas-datasheet-179182157.pdf?src-supplier=Integrated+Device+Technology; ComponentLink3Description: https://datasheet.octopart.com:443/ISL60002DIH326Z-TK-Renesas-datasheet-179182157.pdf?src-supplier=Integrated+Device+Technology; ComponentLink4URL: https://datasheet.octopart.com:443/ISL60002DIH326Z-TK-Renesas-datasheet-149187340.pdf?src-supplier=Integrated+Device+Technology; ComponentLink4Description: https://datasheet.octopart.com:443/ISL60002DIH326Z-TK-Renesas-datasheet-149187340.pdf?src-supplier=Integrated+Device+Technology; ComponentLink5URL: https://datasheet.octopart.com:443/ISL60002DIH326Z-TK-Renesas-datasheet-137927834.pdf?src-supplier=Renesas; ComponentLink5Description: https://datasheet.octopart.com:443/ISL60002DIH326Z-TK-Renesas-datasheet-137927834.pdf?src-supplier=Renesas; ComponentLink6URL: https://datasheet.octopart.com:443/ISL60002DIH326Z-TK-Intersil-datasheet-11480143.pdf?src-supplier=Newark; ComponentLink6Description: https://datasheet.octopart.com:443/ISL60002DIH326Z-TK-Intersil-datasheet-11480143.pdf?src-supplier=Newark; ComponentLink7URL: https://datasheet.octopart.com:443/ISL60002DIH326Z-TK-Renesas-datasheet-23692053.pdf?src-supplier=Future+Electronics; ComponentLink7Description: https://datasheet.octopart.com:443/ISL60002DIH326Z-TK-Renesas-datasheet-23692053.pdf?src-supplier=Future+Electronics; ComponentLink8URL: http://sigma.octopart.com:80/conflict_mineral_statement/Renesas-company-44.pdf?src-supplier=Compliance+Statements; ComponentLink8Description: http://sigma.octopart.com:80/conflict_mineral_statement/Renesas-company-44.pdf?src-supplier=Compliance+Statements; ComponentLink9URL: http://sigma.octopart.com:80/reach_statement/Renesas-company-45.pdf?src-supplier=Compliance+Statements; ComponentLink9Description: http://sigma.octopart.com:80/reach_statement/Renesas-company-45.pdf?src-supplier=Compliance+Statements; Supplier Part Number 1: C152385
footprint SOT95P280X115-3N (SOT23, 3-Leads, Body 2.92x2.80mm, Pitch 0.95mm, IPC Medium Density)
pins: 1 VIN (power) "Power Supply Input", 2 VOUT (power) "Voltage Reference Output", 3 GND (power) "Ground"

## L0402-2n7-Multilayer_Murata
designator L?, comment 2.7nH
Inductor, 800mA, ±2%, 120mΩ; Part Number: L0402-2n7-Multilayer_Murata; Manufacturer: Murata; Manufacturer Part Number: LQG15HS2N7B02D; Part number NEMS: 100300445; Component Status: Active; Pad Count: 2; Note: -55°C ~ 125°C; Artikkelnr Noca: N.A.; Component Class: Inductors; Author: hany; ComponentLink1URL: https://search.murata.co.jp/Ceramy/image/img/P02/JELF243B-0010.pdf; ComponentLink1Description: Datasheet; ComponentLink2URL: N.A.; ComponentLink2Description: Supplier link; HelpURL: https://search.murata.co.jp/Ceramy/image/img/P02/JELF243B-0010.pdf; LatestRevisionDate: 2023-06-06; Published: 2023-06-06; Footprint Doc: 0402; Value: 2.7nH; Supplier 1: Digi-Key; Supplier Part Number 1: 490-LQG15HS2N7B02DTR-ND; Supplier 2: Mouser; Supplier Part Number 2: 81-LQG15HS2N7B02D; Part number IPS: N.A.; Part number Norautron: N.A.; PartId: 100300445
footprint INDC1005X04L
pins: 1, 2

## L0402-7n5-Multilayer_Murata
designator L?, comment 7.5nH
Inductor, 550mA, ±2%, 240mΩ; Part Number: L0402-7n5-Multilayer_Murata; Manufacturer: Murata; Manufacturer Part Number: LQG15HS7N5G02D; Part number NEMS: 100300446; Component Status: Active; Pad Count: 2; Note: -55°C ~ 125°C; Artikkelnr Noca: N.A.; Component Class: Inductors; Author: hany; ComponentLink1URL: https://search.murata.co.jp/Ceramy/image/img/P02/JELF243B-0010.pdf; ComponentLink1Description: Datasheet; ComponentLink2URL: N.A.; ComponentLink2Description: Supplier link; HelpURL: https://search.murata.co.jp/Ceramy/image/img/P02/JELF243B-0010.pdf; LatestRevisionDate: 2023-06-06; Published: 2023-06-06; Footprint Doc: 0402; Value: 7.5nH; Supplier 1: Digi-Key; Supplier Part Number 1: 490-LQG15HS7N5G02DTR-ND; Supplier 2: Mouser; Supplier Part Number 2: 81-LQG15HS7N5J02D; Part number IPS: N.A.; Part number Norautron: N.A.; PartId: 100300446
footprint INDC1005X04L
pins: 1, 2

## LFD182G45DCJD247
designator SAW?, comment Diplexer  Manufacturer Part Number: LFD182G45DCJD247
Murata Manufacturing Co., Ltd. SMD; Supplier: Mouser; Supplier Part Number: 81-LFD182G45DCJD247; Manufacturer: Murata; RoHS: No; Category: LDO; Stock: 11421; Pricing: 1=0.47, 10=0.332, 50=0.332, 100=0.308, 1000=0.217, 10000=0.192 (USD)
footprint CAF-50P160X80-6N (Chip Array, Flat, 6-Leads, Pitch 0,50mm,  Body 1,60x0,80mm,  IPC Medium Density)
pins: 1 LOW, 2 GND (power), 3 HIGH, 4 NC, 5 GND (power), 6 COMMON, 7 GND (power), 8 NC

## LGS4056H
designator U?, comment Li+ Charger  Manufacturer Part Number: LGS4056HDA  Package: DFN-8
Battery Charger, DFN-8(2x2); Case/Package: DFN-8(2x2); Supplier 1: LCSC; house_part_number: LGS4056HDA; Supplier Part Number 1: C5124109
footprint SON50P200X80_HS-9N (SON, 8-Leads, Body 2.00x2.00mm, Pitch 0.50mm, Thermal Pad 1.60x0.69mm, IPC Medium Density)
pins: 1 TEMP (in) "Temperature monitoring. Disables charging if (0.8*VCC)<Vtemp<(0.45*VCC). Ground or float if unused.", 2 PROG (in) "Current charging setting. Connect to GND via 1% resistor. For 300mA and above, Ibat=1000/Rprog. Below 300mA, Ibat=900/Rprog. 1kΩ=1A, 2kΩ= 0.5A, 3kΩ=0.33A", 3 GND (power) "Ground", 4 VCC (power) "Power input. Decouple with a closely-placed 10uF capacitor.", 5 BAT (power) "Battery charge current output. Decouple with a closely-placed 10uF capacitor.", 6 DONE (oc) "Full battery indicator. Open-drain. Connect to ground if unused.", 7 CHRG (oc) "Charging status indicator. Open-drain. Connect to ground if unused.", 8 CE (in) "Charging enable. Active high.", EP GND (power) "Exposed pad. Connect to ground."

## LIS3DHTR
designator U?, comment 3-Axis Accelerometer  Case/Package: LGA-16  Manufacturer Part Number: LIS3DHTR  Supplier Part Number 1: C15134
3-Axis accelerometer, 16-bit, I2C/SPI, LGA-16; Manufacturer: STMicroelectronics; Max Supply Voltage: 3.6V; Min Supply Voltage: 1.71V; Operating Supply Voltage: 2.5V; Bandwidth: 5kHz; Interface: I2C,SPI; Resolution: 16b; Operating Supply Current: 11uA; Sensor Type: 3 Axis; Output Type: Digital; Axis: X, Y, Z; Supplier: Avnet; Supplier Part Number: LIS3DHTR; RoHS: Yes; Category: Accelerometers; Stock: 40000; Pricing: 4000=0.94095, 8000=0.92155, 16000=0.90215 (USD); Pins: 16; Min Operating Temperature: -40°C; Max Operating Temperature: 85°C; Package Quantity: 4000; Packaging: Tape and Reel; Max Supply Voltage (DC): 3.6V; Min Supply Voltage (DC): 1.71V; Series: -; Length: 3mm; Width: 3mm; Height: 1mm; Depth: 3mm; Radiation Hardening: No; Reach SVHC Compliant: No; Lead Free: Lead Free; RoHS Compliant: Yes; ComponentLink1URL: https://datasheet.ciiva.com/7621/1718591-7621744.pdf?src-supplier=Element14; ComponentLink1Description: https://datasheet.ciiva.com/7621/1718591-7621744.pdf?src-supplier=Element14; ComponentLink2URL: https://datasheet.ciiva.com/5296/cd00274221-117431-5296513.pdf?src-supplier=Mouser; ComponentLink2Description: https://datasheet.ciiva.com/5296/cd00274221-117431-5296513.pdf?src-supplier=Mouser; ComponentLink3URL: https://datasheet.ciiva.com/2810/cd00274221-2810009.pdf?src-supplier=Digikey; ComponentLink3Description: https://datasheet.ciiva.com/2810/cd00274221-2810009.pdf?src-supplier=Digikey; ComponentLink4URL: https://datasheet.ciiva.com/2810/cd00274221-2810008.pdf?src-supplier=Digikey; ComponentLink4Description: https://datasheet.ciiva.com/2810/cd00274221-2810008.pdf?src-supplier=Digikey; ComponentLink5URL: https://datasheet.ciiva.com/2810/cd00274221-2810010.pdf?src-supplier=Digikey; ComponentLink5Description: https://datasheet.ciiva.com/2810/cd00274221-2810010.pdf?src-supplier=Digikey; ComponentLink6URL: https://datasheet.ciiva.com/48495/cd00274221-48495849.pdf?src-supplier=Avnet; ComponentLink6Description: https://datasheet.ciiva.com/48495/cd00274221-48495849.pdf?src-supplier=Avnet; ComponentLink7URL: https://datasheet.ciiva.com/3271/cd00274221-3271807.pdf?src-supplier=Avnet; ComponentLink7Description: https://datasheet.ciiva.com/3271/cd00274221-3271807.pdf?src-supplier=Avnet; ComponentLink8URL: https://datasheet.ciiva.com/16216/cd00274221-16216362.pdf?src-supplier=Future+Electronics; ComponentLink8Description: https://datasheet.ciiva.com/16216/cd00274221-16216362.pdf?src-supplier=Future+Electronics; Supplier 1: LCSC; house_part_number: LIS3DHTR
footprint LGA50P300X300X100-16N (LGA, 16-Leads, Body 3.00x3.00mm, Pitch 0.50mm, IPC Medium Density)
pins: 1 VDDIO (power), 2 NC (power), 3 NC (power), 4 SCL/SPC (in), 5 GND (power), 6 SDA/SDI/SDO (io), 7 SDO/SA0 (io), 8 CS (in), 9 INT2 (out), 10 RES (power), 11 INT1 (out), 12 GND (power), 13 ADC3 (in), 14 VDD (power), 15 ADC2 (in), 16 ADC1 (in)

## LPS22HH
designator U6, comment Barometer  Manufacturer Part Number: LPS22HH  Package: LGA-10
260-1260 hPa Absolute barometer, LGA-10; Manufacturer: STMicroelectronics; Sensor Type: PRESSURE SENSOR,PEIZORESISTIVE; Supplier 1: LCSC; RoHS: Yes; Category: Pressure Sensors; Stock 1: 7641; Pricing 1: 1=1.0244, 10=0.8712, 30=0.7877, 100=0.5824, 500=0.546, 1000=0.5304 (USD); Reach SVHC Compliant: Yes; RoHS Compliant: Yes; ComponentLink1URL: https://datasheet.ciiva.com:443/pdfs/VipMasterIC/IC/SGST/SGST-S-A0007383744/SGST-S-A0007383744-1.pdf?src-supplier=IHS+Markit; ComponentLink1Description: https://datasheet.ciiva.com:443/pdfs/VipMasterIC/IC/SGST/SGST-S-A0007383744/SGST-S-A0007383744-1.pdf?src-supplier=IHS+Markit; ComponentLink2URL: http://www.farnell.com/datasheets/2710908.pdf?src-supplier=Farnell; ComponentLink2Description: http://www.farnell.com/datasheets/2710908.pdf?src-supplier=Farnell; ComponentLink3URL: https://www.st.com/resource/en/datasheet/lps22hh.pdf?src-supplier=Digikey; ComponentLink3Description: https://www.st.com/resource/en/datasheet/lps22hh.pdf?src-supplier=Digikey; ComponentLink4URL: https://www.st.com/resource/en/data_brief/lps22hh.pdf?src-supplier=Digikey; ComponentLink4Description: https://www.st.com/resource/en/data_brief/lps22hh.pdf?src-supplier=Digikey; ComponentLink5URL: http://www.farnell.com/datasheets/2710908.pdf?src-supplier=Newark; ComponentLink5Description: http://www.farnell.com/datasheets/2710908.pdf?src-supplier=Newark; Supplier Part Number 1: C2827824
footprint LPS22 (LGA-10)
pins: 1 Vdd_IO (power) "Power supply for I/O pins", 2 SCL/SPC (in) "I²C / MIPI I3CSM serial clock (SCL) SPI serial port clock (SPC)", 3 Reserved (power) "Connect to GND", 4 SDA/SDI/SDI/SDO (io) "I²C / MIPI I3CSM serial data (SDA) 4-wire SPI serial data input (SDI) 3-wire serial data input/output (SDI/SDO)", 5 SDO/SA0 (io) "4-wire SPI serial data output (SDO) I²C least significant bit of the device address (SA0) MIPI I3CSM least significant bit of the static address (SA0)", 6 CS (in) "SPI enable I²C and MIPI I3CSM / SPI mode selection (1: SPI idle mode / I²C and MIPI I3CSM communication enabled; 0: SPI communication mode / I²C and MIPI I3CSM disabled)", 7 INT_DRDY (out) "Interrupt or Data-Ready", 8 GND (power) "0 V supply", 9 GND (power) "0 V supply", 10 VDD (power) "Power supply"